# EAGLE library part CON_2X6_0.1" (library WCSMain)
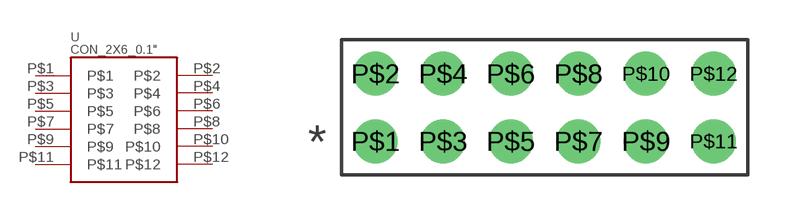
[diagram p27: symbol with the pads of CON_2X6_0.1"; footprint CON_2X6_0.1"]

Designator prefix -

## CON_2X6_0.1"  [CON_2X6_0.1"]
P$1  P$1  pas
P$2  P$2  pas
P$3  P$3  pas
P$4  P$4  pas
P$5  P$5  pas
P$6  P$6  pas
P$7  P$7  pas
P$8  P$8  pas
P$9  P$9  pas
P$10  P$10  pas
P$11  P$11  pas
P$12  P$12  pas

## Footprint CON_2X6_0.1" (pad centres in mm)
drill 1.1: P$1 -6.35,-1.27; P$2 -6.35,1.27; P$3 -3.81,-1.27; P$4 -3.81,1.27; P$5 -1.27,-1.27; P$6 -1.27,1.27; P$7 1.27,-1.27; P$8 1.27,1.27; P$9 3.81,-1.27; P$10 3.81,1.27; P$11 6.35,-1.27; P$12 6.35,1.27